# Altium schematic symbol library test.SchLib: 1 symbol
Pins are listed as number, name and electrical type; pins without a type are passive.

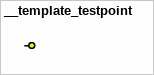
[diagram p0: symbol __template_testpoint]

## __template_testpoint
designator TP?
pins: 1